# Altium integrated library SMMS1360.IntLib: 1 symbol
Pins are listed as number, name and electrical type; pins without a type are passive.

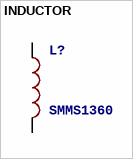
[diagram p0: symbol INDUCTOR]

## INDUCTOR
designator L?, comment SMMS1360
footprint SMMS1360 - duplicate
pins: PS1 1, PS2 2